# Altium schematic symbol library POE70P-50LD.SchLib: 1 symbol
Pins are listed as number, name and electrical type; pins without a type are passive.

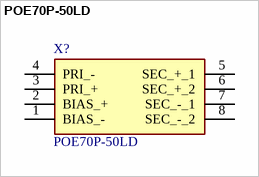
[diagram p0: symbol POE70P-50LD]

## POE70P-50LD
designator X?
Audio Transformers / Signal Transformers POE70P Flyback 7uH 5.0 V 1.4 A; Manufacturer_Name: COILCRAFT; Geometry.Height: 11mm; Mouser Part Number: 994-POE70P-50LD; Mouser Price/Stock: https://www.mouser.co.uk/ProductDetail/Coilcraft/POE70P-50LD?qs=ZYnrCdKdyeed5KiTZWBt9w%3D%3D; Manufacturer_Part_Number: POE70P-50LD; Datasheet Link: https://componentsearchengine.com/Datasheets/1/POE70P-50LD.pdf
footprint POE70P50LD
pins: 1 BIAS_-, 2 BIAS_+, 3 PRI_+, 4 PRI_-, 5 SEC_+_1, 6 SEC_+_2, 7 SEC_-_1, 8 SEC_-_2